# EAGLE library part 74HTC04 (library ds_ic_logic)
6 16ns@6V,50pF 2uA 2V~6V SOIC-14 Inverters ROHS
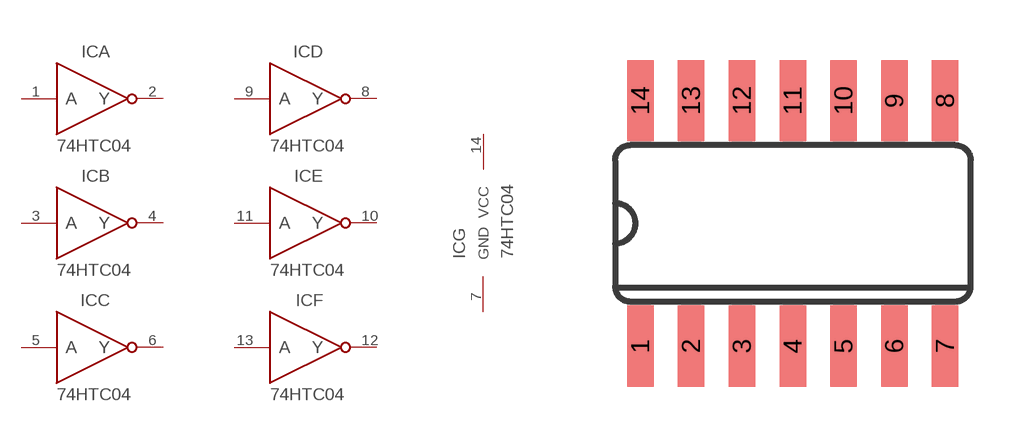
[diagram p12: symbol with the pads of SO14; footprint SO14]

Designator prefix IC; gates A=NOT B=NOT C=NOT D=NOT E=NOT F=NOT G=POWER

## 74HTC04 (DATASHEET: https://www.ti.com/lit/ds/symlink/sn74hc04.pdf?ts=1749642781447&ref_url=https%253A%252F%252Fwww.ti.com%252Fproduct%252FSN74HC04%253FkeyMatch%253D74hc04%2526tisearch%253Duniversal_search%2526usecase%253Dpartmatches; DESCRIPTION: 6 16ns@6V,50pF 2uA 2V~6V SOIC-14 Inverters ROHS; LCSC_PART: C672096; VALUE: 74HCT04D)  [SO14]
1  A:A
2  A:Y
3  B:A
4  B:Y
5  C:A
6  C:Y
7  G:GND  pwr
8  D:Y
9  D:A
10  E:Y
11  E:A
12  F:Y
13  F:A
14  G:VCC  pwr

## Footprint SO14 (pad centres in mm)
Small Outline package 150 mil
smd 0.66 x 2.032: 1 -3.81,-3.073; 2 -2.54,-3.073; 3 -1.27,-3.073; 4 0,-3.073; 5 1.27,-3.073; 6 2.54,-3.073; 7 3.81,-3.073; 8 3.81,3.073; 9 2.54,3.073; 10 1.27,3.073; 11 0,3.073; 12 -1.27,3.073; 13 -2.54,3.073; 14 -3.81,3.073